# EAGLE library part 6264 (library memories)
SRAM 8K x 8 bits
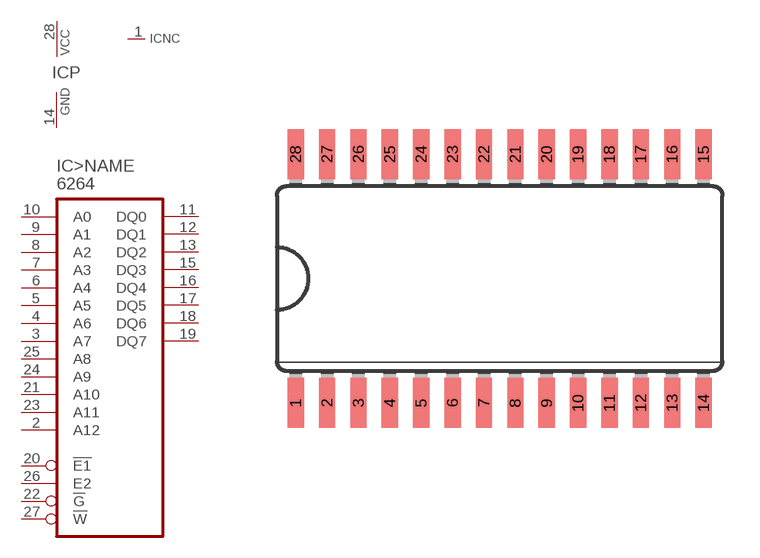
[diagram p5: symbol with the pads of SO28W; footprint SO28W]

Designator prefix IC; gates >NAME=RAM8KX8 P=PWRN NC=NC

## 6264  [SO28W]
1  NC:NC  nc
2  >NAME:A12  in
3  >NAME:A7  in
4  >NAME:A6  in
5  >NAME:A5  in
6  >NAME:A4  in
7  >NAME:A3  in
8  >NAME:A2  in
9  >NAME:A1  in
10  >NAME:A0  in
11  >NAME:DQ0
12  >NAME:DQ1
13  >NAME:DQ2
14  P:GND  pwr
15  >NAME:DQ3
16  >NAME:DQ4
17  >NAME:DQ5
18  >NAME:DQ6
19  >NAME:DQ7
20  >NAME:!E1  in
21  >NAME:A10  in
22  >NAME:!G  in
23  >NAME:A11  in
24  >NAME:A9  in
25  >NAME:A8  in
26  >NAME:E2  in
27  >NAME:!W  in
28  P:VCC  pwr

## Footprint SO28W (pad centres in mm)
Wide Small Outline package 300 mil
smd 0.66 x 2.032: 1 -8.255,-5.029; 2 -6.985,-5.029; 3 -5.715,-5.029; 4 -4.445,-5.029; 5 -3.175,-5.029; 6 -1.905,-5.029; 7 -0.635,-5.029; 8 0.635,-5.029; 9 1.905,-5.029; 10 3.175,-5.029; 11 4.445,-5.029; 12 5.715,-5.029; 13 6.985,-5.029; 14 8.255,-5.029; 15 8.255,5.029; 16 6.985,5.029; 17 5.715,5.029; 18 4.445,5.029; 19 3.175,5.029; 20 1.905,5.029; 21 0.635,5.029; 22 -0.635,5.029; 23 -1.905,5.029; 24 -3.175,5.029; 25 -4.445,5.029; 26 -5.715,5.029; 27 -6.985,5.029; 28 -8.255,5.029